# Altium footprint library MODULE_NUCLEO-G431KB.PcbLib: 1 footprints
Each footprint in its own frame and in the unit in brackets; x right, y up, seen from the top. Pads: shape width x height; smd on the part's side, far side on the other; paste and mask are expansions set on the pad; w line width, h text height; cw(c..) or ccw(c..) is an arc to the next point about the centre after c.
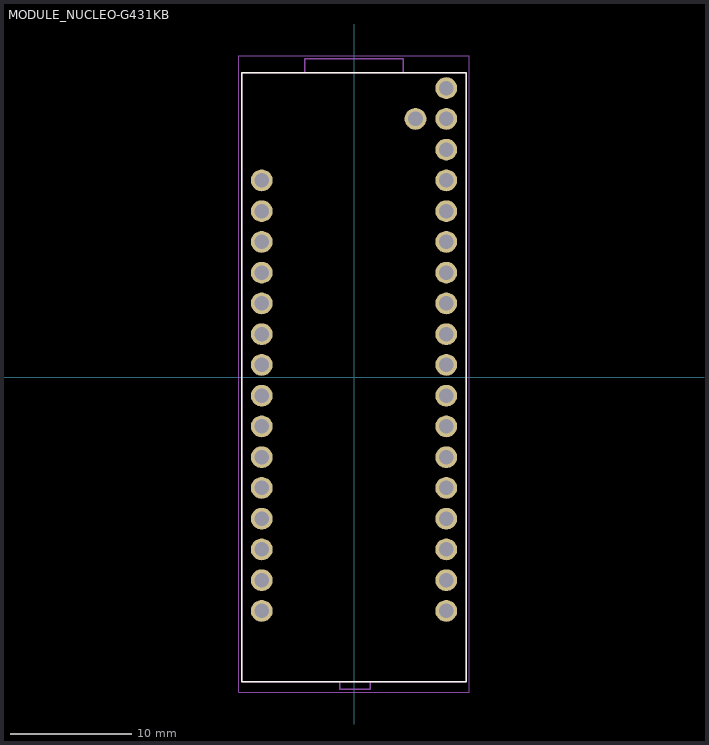
[diagram p0: the footprint, top view; thin cyan lines are the x and y axes]

## MODULE_NUCLEO-G431KB [mm]
pads (34):
  round 1.8 hole 1.2: CN2_1(5.08,21.336) CN2_2(7.62,23.876) CN2_3(7.62,21.336) CN2_4(7.62,18.796) CN3_1(7.62,16.256) CN3_2(7.62,13.716) CN3_3(7.62,11.176) CN3_4(7.62,8.636) CN3_5(7.62,6.096) CN3_6(7.62,3.556) CN3_7(7.62,1.016) CN3_8(7.62,-1.524) CN3_9(7.62,-4.064) CN3_10(7.62,-6.604) CN3_11(7.62,-9.144) CN3_12(7.62,-11.684) CN3_13(7.62,-14.224) CN3_14(7.62,-16.764) CN3_15(7.62,-19.304) CN4_1(-7.62,16.256) CN4_2(-7.62,13.716) CN4_3(-7.62,11.176) CN4_4(-7.62,8.636) CN4_5(-7.62,6.096) CN4_6(-7.62,3.556) CN4_7(-7.62,1.016) CN4_8(-7.62,-1.524) CN4_9(-7.62,-4.064) CN4_10(-7.62,-6.604) CN4_11(-7.62,-9.144) CN4_12(-7.62,-11.684) CN4_13(-7.62,-14.224) CN4_14(-7.62,-16.764) CN4_15(-7.62,-19.304)
Top Overlay:
  lines w0.127: -9.271,-25.146 -9.271,25.146 9.271,25.146 9.271,-25.146 -9.271,-25.146
Assembly Top:
  lines w0.127: -4.06,25.146 -4.06,26.296 4.06,26.296 4.06,25.146 ; -4.06,25.146 4.06,25.146 ; -4.06,25.146 -9.271,25.146 -9.271,-25.146 -1.174,-25.146 ; -1.174,-25.146 -1.174,-25.764 1.326,-25.764 1.326,-25.146 ; -1.174,-25.146 1.326,-25.146 ; 1.326,-25.146 9.271,-25.146 9.271,25.146 4.06,25.146
  text "CN4" at -8.89,-22.225 h1.27
  text "CN3" at 5.715,-22.225 h1.27
  text "CN2" at 2.54,22.86 h1.27
Courtyard Top:
  lines w0.05: -9.521,-26.014 -9.521,26.546 9.521,26.546 9.521,-26.014 -9.521,-26.014
3D body "NUCLEO-F042K6--3DModel-STEP-56544.STEP": height 19.91, standoff 5.41, extent -9.273,-25.908 9.272,26.095